# EAGLE library part RFA300960A (library dawidkulpa_modules)
80 x 160 dots, RGB, TFT Display
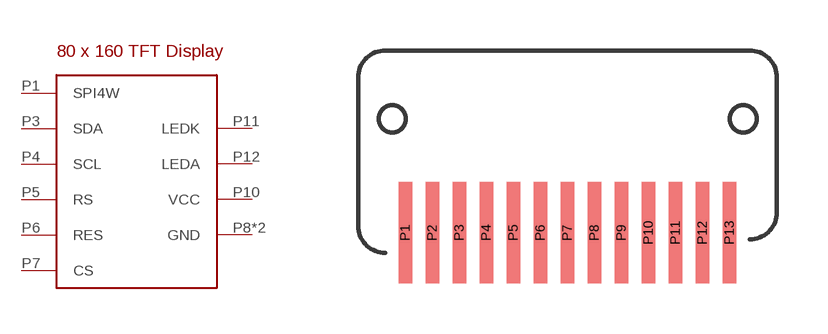
[diagram p2: symbol with the pads of LCM13; footprint LCM13]

Designator prefix -

## RFA300960A  [LCM13]
P1  SPI4W
P3  SDA
P4  SCL
P5  RS
P6  RES
P7  CS
P8  GND
P10  VCC
P11  LEDK
P12  LEDA
P13  GND

## Footprint LCM13 (pad centres in mm)
smd 0.4 x 3: P1 -4.8,0.6; P2 -4,0.6; P3 -3.2,0.6; P4 -2.4,0.6; P5 -1.6,0.6; P6 -0.8,0.6; P7 0,0.6; P8 0.8,0.6; P9 1.6,0.6; P10 2.4,0.6; P11 3.2,0.6; P12 4,0.6; P13 4.8,0.6